# Altium schematic symbol library AOD609.SchLib: 1 symbol
Pins are listed as number, name and electrical type; pins without a type are passive.

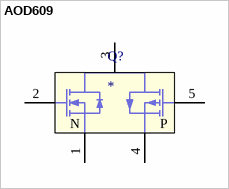
[diagram p0: symbol AOD609]

## AOD609
designator Q?
pins: 1 S1, 2 G1, 3 D1/D2, 4 S2, 5 G2
text: N; P